# Altium footprint library PuttPilot.PcbLib: 34 footprints (part 1 of 3)
Each footprint in its own frame and in the unit in brackets; x right, y up, seen from the top. Pads: shape width x height; smd on the part's side, far side on the other; paste and mask are expansions set on the pad; w line width, h text height; cw(c..) or ccw(c..) is an arc to the next point about the centre after c.
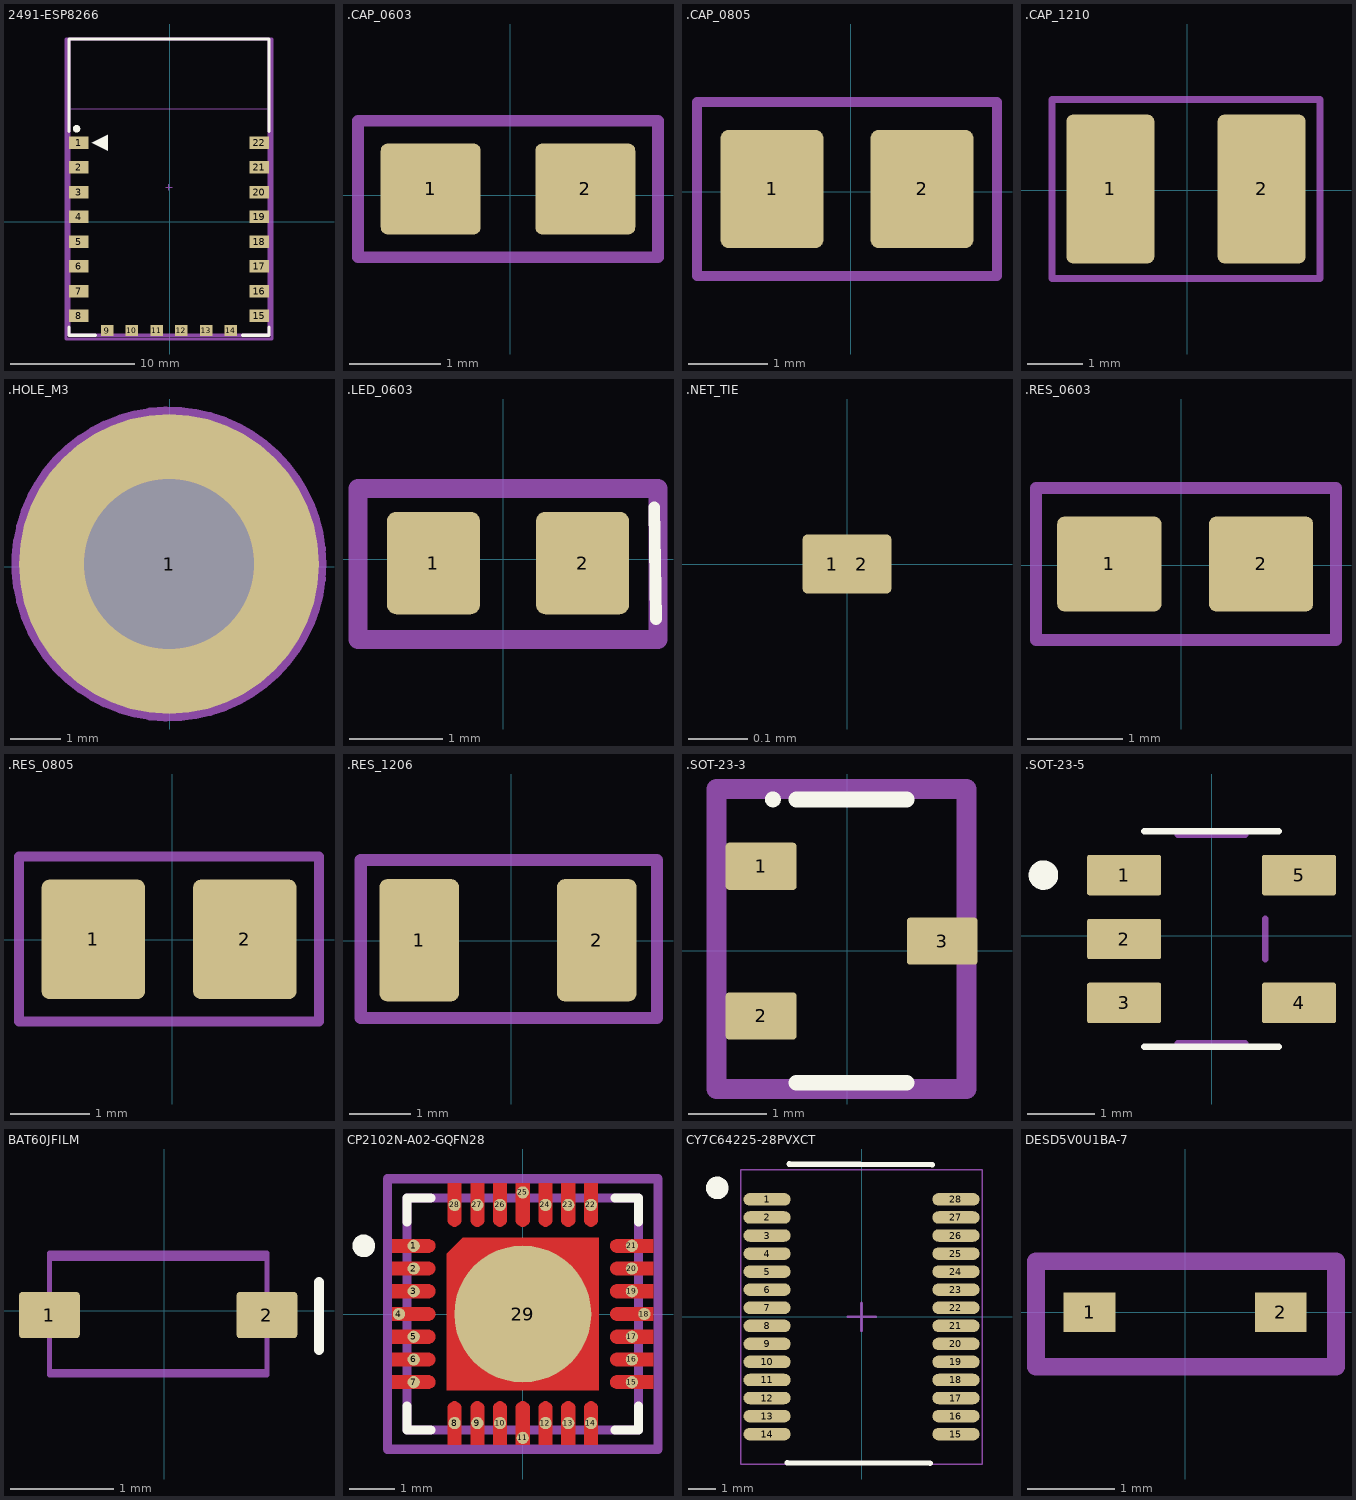
[diagram p0: the footprints below, top view; thin cyan lines are the x and y axes]

## 2491-ESP8266 [mm]
pads (22):
  rect 1.6x1 smd: 1(-7.345,6.391) 2(-7.345,4.391) 3(-7.345,2.391) 4(-7.345,0.391) 5(-7.345,-1.609) 6(-7.345,-3.609) 7(-7.345,-5.609) 8(-7.345,-7.609) 15(7.255,-7.609) 16(7.255,-5.609) 17(7.255,-3.609) 18(7.255,-1.609) 19(7.255,0.391) 20(7.255,2.391) 21(7.255,4.391) 22(7.255,6.391)
  rect 1x0.9 smd: 9(-5.045,-8.809) 10(-3.045,-8.809) 11(-1.045,-8.809) 12(0.955,-8.809) 13(2.955,-8.809) 14(4.955,-8.809)
Top Overlay:
  circle w0.3: c-7.52,7.516 r0.15
  region: -6.275,6.391 -5.005,5.756 -5.005,7.026
  lines w0.254: -8.129,-8.525 -8.129,-9.177 -5.977,-9.177 ; -8.129,7.307 -8.129,14.762 8.038,14.762 8.038,7.307 ; 5.886,-9.177 8.038,-9.177 8.038,-8.525
Top Designator:
  text ".Designator" at -0.546,-0.478 h1.52
Top 3D Body:
  lines w0.051: -8.172,9.118 8.084,9.118 8.084,14.773 -8.172,14.773 -8.172,9.118
  lines w0.254: -8.129,-9.177 -8.129,14.762 8.038,14.762 8.038,-9.177 -8.129,-9.177
  text "ANTENNA AREA" at -6.547,14.214 h0.25
  text "CUTOUT POLYGON" at -6.547,13.706 h0.25
Top Courtyard:
  lines w0.1: -0.299,2.793 0.209,2.793 ; -0.045,2.539 -0.045,3.047
  lines w0.254: -8.37,-9.484 8.28,-9.484 8.28,14.762 -8.37,14.762 -8.37,-9.484
3D body "ESP_12_E.STEP": height 2.75, standoff 0.04, extent -8.044,-9.1 7.956,14.9

## .CAP_0603 [mm] "GENERIC 0603 CAPACITOR"
pads (2):
  rrect15% 1.1x1 smd: 1(-0.873,0.07) 2(0.827,0.07)
Top Designator:
  text ".Designator" at -0.39,-0.027 h0.75
Top Courtyard:
  lines w0.127: -1.673,-0.68 -1.673,0.82 1.627,0.82 1.627,-0.68 -1.673,-0.68
3D body "c0603c101j1gactu.stp": height 0.87, standoff 0, extent -0.898,-0.38 0.852,0.57

## .CAP_0805 [mm] "GENERIC 0805 CAPACITOR"
pads (2):
  rrect15% 1.3x1.5 smd: 1(-0.995,0.036) 2(0.905,0.036)
Top Designator:
  text ".Designator" at -0.391,-0.202 h1.52
Top Courtyard:
  lines w0.127: -1.945,-1.064 1.855,-1.064 1.855,1.136 -1.945,1.136 -1.945,-1.064
3D body "CAP0805.stp": height 1.39, standoff -0.01, extent -1.145,-0.664 1.055,0.786

## .CAP_1210 [mm] "GENERIC 1210 CAPACITOR"
pads (2):
  rrect15% 1.6x2.7 smd: 1(-1.4,0.025) 2(1.35,0.025)
Top Component Outline:
  lines w0.05: -2.375,-1.575 2.325,-1.575 ; -2.375,1.625 2.325,1.625
Top Designator:
  text ".Designator" at -0.102,-0.051 h1.52
Top Courtyard:
  lines w0.127: -2.464,-1.6 -2.464,1.651 2.413,1.651 2.413,-1.6 -2.464,-1.6
3D body: height 2.7, standoff 0, extent 0.975,-1.325 1.725,1.375
3D body: height 2.7, standoff 0, extent -1.775,-1.325 -1.025,1.375
3D body: height 2.7, standoff 0, extent -1.025,-1.325 0.975,1.375

## .HOLE_M3 [mm]
pads (1):
  round 6 hole 3.4: 1(-0.02,0.06)
Top Component Outline:
  circle w0.3: c-0.02,0.06 r3
  lines w0.2: -0.82,0.06 -0.02,0.06 ; -0.02,-0.74 -0.02,0.06 ; -0.02,0.86 -0.02,0.06 ; 0.78,0.06 -0.02,0.06
Top Designator:
  text ".Designator" at -2.366,-0.378 h1.52
Top Courtyard:
  circle w0.3: c-0.02,0.06 r3

## .LED_0603 [mm] ".GENERIC 0603 LED"
pads (2):
  rrect20% 1x1.1 smd: 1(-0.75,-0.04) 2(0.85,-0.04)
Top Overlay:
  lines w0.127: 1.62,0.56 1.64,-0.64
Top Designator:
  text ".Designator" at -0.204,-0.167 h1.52
Top Courtyard:
  lines w0.2: -1.56,-0.86 -1.56,0.76 1.66,0.76 1.66,-0.86 -1.56,-0.86
3D body "ALSRobot-LED0603(G).step": height 0.6, standoff 0, extent -0.76,-0.44 0.86,0.36

## .NET_TIE [mm]
pads (2):
  rrect15% 0.1x0.1 smd paste-2539.97 mask+0: 1(-0.025,0) 2(0.025,0)
Top Designator:
  text ".Designator" at -0.075,-0.042 h0.1

## .RES_0603 [mm] "GENERIC 0603 RESISTOR"
pads (2):
  rrect15% 1.1x1 smd: 1(-0.757,0.011) 2(0.843,0.011)
Top Designator:
  text ".Designator" at -0.207,-0.289 h0.75
Top Courtyard:
  lines w0.127: -1.531,-0.789 1.633,-0.789 1.633,0.81 -1.531,0.81 -1.531,-0.789
3D body "0603.step": height 0.46, standoff 0.01, extent -0.757,-0.389 0.843,0.411

## .RES_0805 [mm] "GENERIC 0805 RESISTOR"
pads (2):
  rrect15% 1.3x1.5 smd: 1(-0.992,0.005) 2(0.908,0.005)
Top Designator:
  text ".Designator" at -0.365,-0.204 h0.75
Top Courtyard:
  lines w0.127: -1.926,-1.024 1.838,-1.024 1.838,1.045 -1.926,1.045 -1.926,-1.024
3D body "0805 resistor.step": height 0.61, standoff 0.01, extent -1.042,-0.62 0.958,0.63

## .RES_1206 [mm] "GENERIC 1206 RESISTOR"
pads (2):
  rrect20% 1.3x2 smd: 1(-1.503,0.009) 2(1.397,0.009)
Top Designator:
  text ".Designator" at -0.303,-0.241 h0.75
Top Courtyard:
  lines w0.2: -2.46,-1.26 2.38,-1.26 2.38,1.32 -2.46,1.32 -2.46,-1.26
3D body "1206 resistor.step": height 0.61, standoff 0.01, extent -1.653,-0.791 1.547,0.809

## .SOT-23-3 [mm]
pads (3):
  rrect15% 0.9x0.6 smd: 1(-1.096,1.073) 2(-1.096,-0.827) 3(1.204,0.123)
Top Overlay:
  circle w0.1: c-0.946,1.923 r0.05
  lines w0.2: -0.646,-1.677 0.754,-1.677 ; -0.646,1.923 0.754,1.923
Top Designator:
  text ".Designator" at -0.267,-0.358 h1.52
Top Courtyard:
  lines w0.254: -1.664,-1.755 1.511,-1.755 1.511,2.055 -1.664,2.055 -1.664,-1.755
3D body "SOT95P230X110-3N.step": height 1.1, standoff 0, extent -1.246,-1.377 1.354,1.623

## .SOT-23-5 [mm] ".GENERIC SOT-23-5"
pads (5):
  rrect10% 1.1x0.6 smd: 1(-1.3,0.9) 2(-1.3,-0.05) 3(-1.3,-1) 4(1.3,-1) 5(1.3,0.9)
Top Overlay:
  circle w0.22: c-2.5,0.9 r0.11
  lines w0.1: -1,-1.65 1,-1.65 ; -1,1.55 1,1.55
Top Component Outline:
  lines w0.1: 0.8,-0.35 0.8,0.25
Top Designator:
  text ".Designator" at 0.133,-1.35 h0.5
Top Courtyard:
  lines w0.1: -0.5,-1.6 0.5,-1.6 ; -0.5,1.5 0.5,1.5 ; 0.8,-0.35 0.8,0.25
3D body "TLV75533PDBVR (1).STEP": height 1.45, standoff 0, extent -1.4,-1.5 1.4,1.4

## BAT60JFILM [mm]
pads (2):
  rrect15% 0.59x0.45 smd: 1(-1.115,-0.04) 2(0.995,-0.04)
Top Overlay:
  lines w0.1: 1.5,-0.38 1.5,0.28
Top Component Outline:
  lines w0.051: -1.115,-0.59 0.995,-0.59 0.995,0.51 -1.115,0.51 -1.115,-0.59
Top Designator:
  text ".Designator" at -0.349,-0.52 h1
Top Courtyard:
  lines w0.051: -1.115,-0.62 0.995,-0.62 0.995,0.56 -1.115,0.56 -1.115,-0.62
3D body "BAT60JFILM.step": height 1.17, standoff 0, extent -1.31,-0.68 1.19,0.6

## CP2102N-A02-GQFN28 [mm]
pads (29):
  round 0.27 smd paste+0 mask+0: 1(-2.4,1.5) 2(-2.4,1) 3(-2.4,0.5) 4(-2.725,0) 5(-2.4,-0.5) 6(-2.4,-1) 7(-2.4,-1.5) 8(-1.5,-2.4) 9(-1,-2.4) 10(-0.5,-2.4) 11(0,-2.725) 12(0.5,-2.4) 13(1,-2.4) 14(1.5,-2.4) 15(2.4,-1.5) 16(2.4,-1) 17(2.4,-0.5) 18(2.675,0) 19(2.4,0.5) 20(2.4,1) 21(2.4,1.5) 22(1.5,2.4) 23(1,2.4) 24(0.5,2.4) 25(0,2.675) 26(-0.5,2.4) 27(-1,2.4) 28(-1.5,2.4)
  round 3.015 smd paste-1000 mask+0: 29(0,0)
Top Layer:
  region: -2.875,1.65 -2.075,1.65 -2.045,1.65 -1.99,1.627 -1.948,1.585 -1.925,1.53 -1.925,1.5 -1.925,1.47 -1.948,1.415 -1.99,1.373 -2.045,1.35 -2.075,1.35 -2.875,1.35
  region: -2.875,1.15 -2.075,1.15 -2.045,1.15 -1.99,1.127 -1.948,1.085 -1.925,1.03 -1.925,1 -1.925,0.97 -1.948,0.915 -1.99,0.873 -2.045,0.85 -2.075,0.85 -2.875,0.85
  region: -2.875,0.65 -2.075,0.65 -2.045,0.65 -1.99,0.627 -1.948,0.585 -1.925,0.53 -1.925,0.5 -1.925,0.47 -1.948,0.415 -1.99,0.373 -2.045,0.35 -2.075,0.35 -2.875,0.35
  region: -2.875,0.15 -2.075,0.15 -2.045,0.15 -1.99,0.127 -1.948,0.085 -1.925,0.03 -1.925,0 -1.925,-0.03 -1.948,-0.085 -1.99,-0.127 -2.045,-0.15 -2.075,-0.15 -2.875,-0.15
  region: -2.875,-0.35 -2.075,-0.35 -2.045,-0.35 -1.99,-0.373 -1.948,-0.415 -1.925,-0.47 -1.925,-0.5 -1.925,-0.53 -1.948,-0.585 -1.99,-0.627 -2.045,-0.65 -2.075,-0.65 -2.875,-0.65
  region: -2.875,-0.85 -2.075,-0.85 -2.045,-0.85 -1.99,-0.873 -1.948,-0.915 -1.925,-0.97 -1.925,-1 -1.925,-1.03 -1.948,-1.085 -1.99,-1.127 -2.045,-1.15 -2.075,-1.15 -2.875,-1.15
  region: -2.875,-1.35 -2.075,-1.35 -2.045,-1.35 -1.99,-1.373 -1.948,-1.415 -1.925,-1.47 -1.925,-1.5 -1.925,-1.53 -1.948,-1.585 -1.99,-1.627 -2.045,-1.65 -2.075,-1.65 -2.875,-1.65
  region: -1.65,-2.875 -1.65,-2.075 -1.65,-2.045 -1.627,-1.99 -1.585,-1.948 -1.53,-1.925 -1.5,-1.925 -1.47,-1.925 -1.415,-1.948 -1.373,-1.99 -1.35,-2.045 -1.35,-2.075 -1.35,-2.875
  region: -1.15,-2.875 -1.15,-2.075 -1.15,-2.045 -1.127,-1.99 -1.085,-1.948 -1.03,-1.925 -1,-1.925 -0.97,-1.925 -0.915,-1.948 -0.873,-1.99 -0.85,-2.045 -0.85,-2.075 -0.85,-2.875
  region: -0.65,-2.875 -0.65,-2.075 -0.65,-2.045 -0.627,-1.99 -0.585,-1.948 -0.53,-1.925 -0.5,-1.925 -0.47,-1.925 -0.415,-1.948 -0.373,-1.99 -0.35,-2.045 -0.35,-2.075 -0.35,-2.875
  region: -0.15,-2.875 -0.15,-2.075 -0.15,-2.045 -0.127,-1.99 -0.085,-1.948 -0.03,-1.925 0,-1.925 0.03,-1.925 0.085,-1.948 0.127,-1.99 0.15,-2.045 0.15,-2.075 0.15,-2.875
  region: 0.35,-2.875 0.35,-2.075 0.35,-2.045 0.373,-1.99 0.415,-1.948 0.47,-1.925 0.5,-1.925 0.53,-1.925 0.585,-1.948 0.627,-1.99 0.65,-2.045 0.65,-2.075 0.65,-2.875
  region: 0.85,-2.875 0.85,-2.075 0.85,-2.045 0.873,-1.99 0.915,-1.948 0.97,-1.925 1,-1.925 1.03,-1.925 1.085,-1.948 1.127,-1.99 1.15,-2.045 1.15,-2.075 1.15,-2.875
  region: 1.35,-2.875 1.35,-2.075 1.35,-2.045 1.373,-1.99 1.415,-1.948 1.47,-1.925 1.5,-1.925 1.53,-1.925 1.585,-1.948 1.627,-1.99 1.65,-2.045 1.65,-2.075 1.65,-2.875
  region: 2.875,-1.65 2.075,-1.65 2.045,-1.65 1.99,-1.627 1.948,-1.585 1.925,-1.53 1.925,-1.5 1.925,-1.47 1.948,-1.415 1.99,-1.373 2.045,-1.35 2.075,-1.35 2.875,-1.35
  region: 2.875,-1.15 2.075,-1.15 2.045,-1.15 1.99,-1.127 1.948,-1.085 1.925,-1.03 1.925,-1 1.925,-0.97 1.948,-0.915 1.99,-0.873 2.045,-0.85 2.075,-0.85 2.875,-0.85
  region: 2.875,-0.65 2.075,-0.65 2.045,-0.65 1.99,-0.627 1.948,-0.585 1.925,-0.53 1.925,-0.5 1.925,-0.47 1.948,-0.415 1.99,-0.373 2.045,-0.35 2.075,-0.35 2.875,-0.35
  region: 2.875,-0.15 2.075,-0.15 2.045,-0.15 1.99,-0.127 1.948,-0.085 1.925,-0.03 1.925,0 1.925,0.03 1.948,0.085 1.99,0.127 2.045,0.15 2.075,0.15 2.875,0.15
  region: 2.875,0.35 2.075,0.35 2.045,0.35 1.99,0.373 1.948,0.415 1.925,0.47 1.925,0.5 1.925,0.53 1.948,0.585 1.99,0.627 2.045,0.65 2.075,0.65 2.875,0.65
  region: 2.875,0.85 2.075,0.85 2.045,0.85 1.99,0.873 1.948,0.915 1.925,0.97 1.925,1 1.925,1.03 1.948,1.085 1.99,1.127 2.045,1.15 2.075,1.15 2.875,1.15
  region: 2.875,1.35 2.075,1.35 2.045,1.35 1.99,1.373 1.948,1.415 1.925,1.47 1.925,1.5 1.925,1.53 1.948,1.585 1.99,1.627 2.045,1.65 2.075,1.65 2.875,1.65
  region: 1.65,2.875 1.65,2.075 1.65,2.045 1.627,1.99 1.585,1.948 1.53,1.925 1.5,1.925 1.47,1.925 1.415,1.948 1.373,1.99 1.35,2.045 1.35,2.075 1.35,2.875
  region: 1.15,2.875 1.15,2.075 1.15,2.045 1.127,1.99 1.085,1.948 1.03,1.925 1,1.925 0.97,1.925 0.915,1.948 0.873,1.99 0.85,2.045 0.85,2.075 0.85,2.875
  region: 0.65,2.875 0.65,2.075 0.65,2.045 0.627,1.99 0.585,1.948 0.53,1.925 0.5,1.925 0.47,1.925 0.415,1.948 0.373,1.99 0.35,2.045 0.35,2.075 0.35,2.875
  region: 0.15,2.875 0.15,2.075 0.15,2.045 0.127,1.99 0.085,1.948 0.03,1.925 0,1.925 -0.03,1.925 -0.085,1.948 -0.127,1.99 -0.15,2.045 -0.15,2.075 -0.15,2.875
  region: -0.35,2.875 -0.35,2.075 -0.35,2.045 -0.373,1.99 -0.415,1.948 -0.47,1.925 -0.5,1.925 -0.53,1.925 -0.585,1.948 -0.627,1.99 -0.65,2.045 -0.65,2.075 -0.65,2.875
  region: -0.85,2.875 -0.85,2.075 -0.85,2.045 -0.873,1.99 -0.915,1.948 -0.97,1.925 -1,1.925 -1.03,1.925 -1.085,1.948 -1.127,1.99 -1.15,2.045 -1.15,2.075 -1.15,2.875
  region: -1.35,2.875 -1.35,2.075 -1.35,2.045 -1.373,1.99 -1.415,1.948 -1.47,1.925 -1.5,1.925 -1.53,1.925 -1.585,1.948 -1.627,1.99 -1.65,2.045 -1.65,2.075 -1.65,2.875
  region: -1.675,1.325 -1.325,1.675 1.675,1.675 1.675,-1.675 -1.675,-1.675
Top Overlay:
  circle w0.25: c-3.5,1.5 r0.125
  lines w0.2: -2.55,-2.025 -2.55,-2.55 -2.025,-2.55 ; -2.55,2.025 -2.55,2.55 -2.025,2.55 ; 2.025,-2.55 2.55,-2.55 2.55,-2.025 ; 2.025,2.55 2.55,2.55 2.55,2.025
Top Paste:
  rectangle: -1.35,-1.35 -0.15,-0.15
  rectangle: 0.15,-1.35 1.35,-0.15
  rectangle: 0.15,0.15 1.35,1.35
  rectangle: -1.35,0.15 -0.15,1.35
M16 Sheet Detail:
  lines w0.2: -2.55,-2.55 2.55,-2.55 2.55,2.55 -2.55,2.55 -2.55,-2.55
Mechanical 12:
  lines w0.2: -2.975,-2.975 2.975,-2.975 2.975,2.975 -2.975,2.975 -2.975,-2.975
  text ".Designator" at 0,0.188 h1
Mechanical 18:
  lines w0.1: -0.5,0 0.5,0 ; 0,-0.5 0,0.5
Mechanical 19:
  lines w0.2: -2.975,-2.975 2.975,-2.975 2.975,2.975 -2.975,2.975 -2.975,-2.975
3D body "IC_Silicon_Labs_CP2102N-A02-GQFN28_eec.STEP": height 0.8, standoff 0, extent -2.501,-2.501 2.501,2.501

## CY7C64225-28PVXCT [mm]
pads (28):
  oval 1.7x0.45 smd: 1(-3.405,4.225) 2(-3.405,3.575) 3(-3.405,2.925) 4(-3.405,2.275) 5(-3.405,1.625) 6(-3.405,0.975) 7(-3.405,0.325) 8(-3.405,-0.325) 9(-3.405,-0.975) 10(-3.405,-1.625) 11(-3.405,-2.275) 12(-3.405,-2.925) 13(-3.405,-3.575) 14(-3.405,-4.225) 15(3.395,-4.225) 16(3.395,-3.575) 17(3.395,-2.925) 18(3.395,-2.275) 19(3.395,-1.625) 20(3.395,-0.975) 21(3.395,-0.325) 22(3.395,0.325) 23(3.395,0.975) 24(3.395,1.625) 25(3.395,2.275) 26(3.395,2.925) 27(3.395,3.575) 28(3.395,4.225)
Top Overlay:
  circle w0.41: c-5.2,4.64 r0.201
  lines w0.2: -2.68,-5.26 2.46,-5.28 ; -2.6,5.5 2.54,5.48
Top Courtyard:
  lines w0.05: -4.355,-5.3 -4.355,5.3 4.345,5.3 4.345,-5.3 -4.355,-5.3
  lines w0.1: -0.505,0 0.495,0 ; -0.005,-0.5 -0.005,0.5
3D body "SSOP-28.step": height 2.01, standoff 0, extent -4.051,-5.194 4.051,5.194

## DESD5V0U1BA-7 [mm]
pads (2):
  rect 0.59x0.45 smd: 1(-1.09,0) 2(1.09,0)
Top Designator:
  text ".Designator" at -0.886,-0.218 h1.52
Top Courtyard:
  lines w0.2: -1.7,-0.62 1.72,-0.62 1.72,0.58 -1.7,0.58 -1.7,-0.62
3D body "SOD323-L_DIO.step": height 1.2, standoff 0, extent -1.346,-0.698 1.346,0.698